# EAGLE library part ADJ450 (library Panasonic Relay)
DJ - 1 Form A 1 Form B - Single side stable, Flux-resistant type - without a test button Data sheet <https://www.panasonic-electric-works.com/eu/download.htm?id=55823> Parameters Max. switching voltage: 230V DC, 440V AC Max. switching current: 8 A / 16 A Operational function: Single side stable, 1 coil latching, 2 coil latching Contact arrangement: 1 NO / 2 NO / 1 NO 1 NC Applications Temperature controller Automatic meter reading OA equipment FA equipment Options Also available as 1 coil latching and 2 coil latching version, each as RT II and RT III type and with or without a test button. Annotation: The protection category (RT 0 - RT V) describes the degree of sealing the relay's case or it's contact unit.
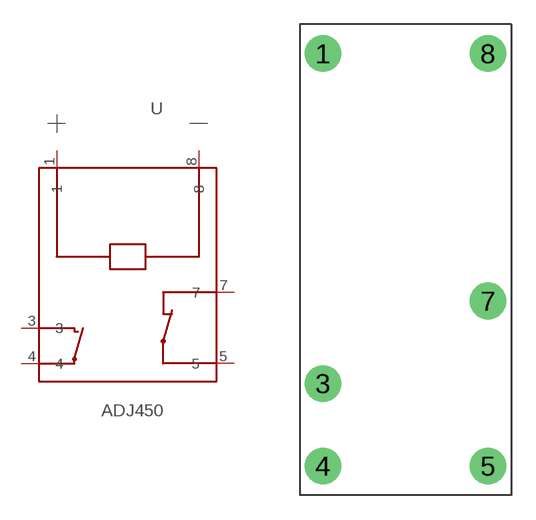
[diagram p1: symbol with the pads of DJ_1_FORM_A_1_FORM_B_SSS; footprint DJ_1_FORM_A_1_FORM_B_SSS]

Designator prefix -

## ADJ4505005 (U_COIL: 5V DC), ADJ4505006 (U_COIL: 6V DC), ADJ4505012 (U_COIL: 12V DC), ADJ4505024 (U_COIL: 24V DC), ADJ4505048 (U_COIL: 48V DC)  [DJ_1_FORM_A_1_FORM_B_SSS]
1  1
3  3
4  4
5  5
7  7
8  8

## Footprint DJ_1_FORM_A_1_FORM_B_SSS (pad centres in mm)
drill 1.5: 1 -5.08,12.7; 3 -5.08,-7.62; 4 -5.08,-12.7; 5 5.08,-12.7; 7 5.08,-2.54; 8 5.08,12.7